# Altium footprint library Balancing.PcbLib: 9 footprints
Each footprint in its own frame and in the unit in brackets; x right, y up, seen from the top. Pads: shape width x height; smd on the part's side, far side on the other; paste and mask are expansions set on the pad; w line width, h text height; cw(c..) or ccw(c..) is an arc to the next point about the centre after c.
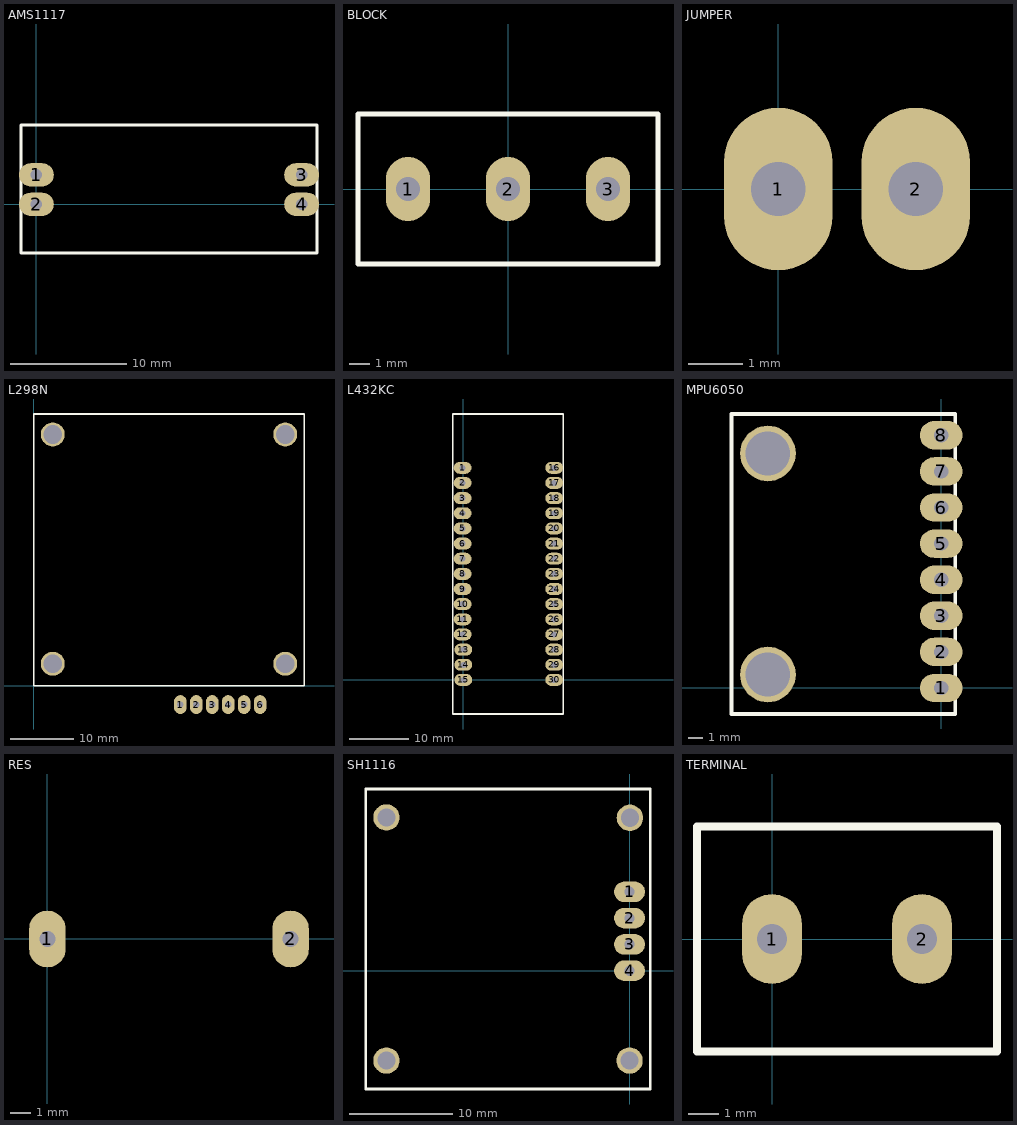
[diagram p0: the footprints below, top view; thin cyan lines are the x and y axes]

## AMS1117 [mm]
pads (4):
  oval 3x2 hole 1: 1(0,2.54) 2(0,0) 3(22.86,2.54) 4(22.86,0)
Top Overlay:
  lines w0.254: -1.32,-4.18 24.18,-4.18 24.18,6.82 -1.32,6.82 -1.32,-4.18
3D body "AMS1117.STEP": height 3.2, standoff -0.05, extent -1.447,-4.33 24.053,6.87

## BLOCK [mm]
pads (3):
  oval 2.2x3.2 hole 1.2: 1(-5,0) 2(0,0) 3(5,0)
Top Overlay:
  lines w0.254: -7.5,-3.75 7.5,-3.75 7.5,3.75 -7.5,3.75 -7.5,-3.75

## JUMPER [mm]
pads (2):
  oval 2x3 hole 1: 1(0,0) 2(2.54,0)

## L298N [mm]
pads (10):
  oval 2x3 hole 1: 1(23.3,-3) 2(25.84,-3) 3(28.38,-3) 4(30.92,-3) 5(33.46,-3) 6(36,-3)
  round 3.8 hole 3: ""(3,3.5) ""(3,40) ""(40,3.5) ""(40,40)
Top Overlay:
  lines w0.254: 0,0 43,0 43,43.25 0,43.25 0,0

## L432KC [mm]
pads (30):
  oval 3x2 hole 1: 1(-0.127,35.56) 2(-0.127,33.02) 3(-0.127,30.48) 4(-0.127,27.94) 5(-0.127,25.4) 6(-0.127,22.86) 7(-0.127,20.32) 8(-0.127,17.78) 9(-0.127,15.24) 10(-0.127,12.7) 11(-0.127,10.16) 12(-0.127,7.62) 13(0,5.08) 14(0,2.54) 15(0,0) 16(15.24,35.56) 17(15.24,33.02) 18(15.24,30.48) 19(15.24,27.94) 20(15.24,25.4) 21(15.24,22.86) 22(15.24,20.32) 23(15.24,17.78) 24(15.24,15.24) 25(15.24,12.7) 26(15.24,10.16) 27(15.24,7.62) 28(15.24,5.08) 29(15.24,2.54) 30(15.24,0)
Top Overlay:
  lines w0.254: -1.776,-5.713 16.764,-5.713 16.764,44.577 -1.776,44.577 -1.776,-5.713
3D body "NUCLEO-L432KC.STEP": height 8.5, standoff -6, extent -1.779,-6.477 16.765,45.526

## MPU6050 [mm]
pads (10):
  oval 3x2 hole 1: 1(0,0) 2(0,2.54) 3(0,5.08) 4(0,7.62) 5(0,10.16) 6(0,12.7) 7(0,15.24) 8(0,17.78)
  round 3.92 hole 3.12: ""(-12.19,0.945) ""(-12.19,16.505)
Top Overlay:
  lines w0.254: -14.75,-1.83 1,-1.83 1,19.28 -14.75,19.28 -14.75,-1.83
3D body "MPU6050.stp": height 6.44, standoff -4.73, extent -14.605,-1.791 1.27,19.317

## RES [mm]
pads (2):
  oval 1.8x2.8 hole 0.8: 1(0,0) 2(12,0)

## SH1116 [mm]
pads (8):
  oval 3x2 hole 1: 1(0,7.62) 2(0,5.08) 3(0,2.54) 4(0,0)
  round 2.55 hole 1.75: ""(-23.5,-8.69) ""(-23.5,14.81) ""(0,-8.69) ""(0.032,14.776)
Top Overlay:
  lines w0.254: -25.5,-11.44 2,-11.44 2,17.56 -25.5,17.56 -25.5,-11.44
3D body "SH1106.step": height 3.5, standoff 0.4, extent -29.168,-13.682 2.032,22.318

## TERMINAL [mm]
pads (2):
  oval 2x3 hole 1: 1(0,0) 2(5,0)
Top Overlay:
  lines w0.254: -2.5,-3.75 7.5,-3.75 7.5,3.75 -2.5,3.75 -2.5,-3.75
3D body "TERMINAL.stp": height 14.4, standoff -3.5, extent -3.01,-5.354 7.54,4.846